# EAGLE library part 4CAPACITORARRAY (library CharlieCreations)
4 Capacitor Array
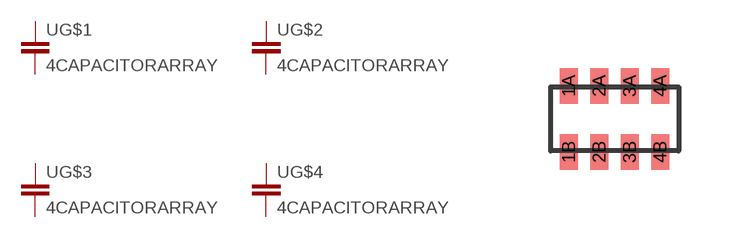
[diagram p12: symbol with the pads of CAP4ARRAY; footprint CAP4ARRAY]

Designator prefix -; gates G$1=CAP G$2=CAP G$3=CAP G$4=CAP

## 4CAPACITORARRAYW3A41A101KAT2A  [CAP4ARRAY]
1A  G$1:1  pas
1B  G$1:2  pas
2A  G$2:1  pas
2B  G$2:2  pas
3A  G$3:1  pas
3B  G$3:2  pas
4A  G$4:1  pas
4B  G$4:2  pas

## Footprint CAP4ARRAY (pad centres in mm)
smd 0.457 x 0.889: 1A -1.143,0.826; 1B -1.143,-0.826; 2A -0.381,0.826; 2B -0.381,-0.826; 3A 0.381,0.826; 3B 0.381,-0.826; 4A 1.143,0.826; 4B 1.143,-0.826